# Altium footprint library CAN - Circle pin arrangement.PcbLib: 25 footprints (part 1 of 2)
Each footprint in its own frame and in the unit in brackets; x right, y up, seen from the top. Pads: shape width x height; smd on the part's side, far side on the other; paste and mask are expansions set on the pad; w line width, h text height; cw(c..) or ccw(c..) is an arc to the next point about the centre after c.
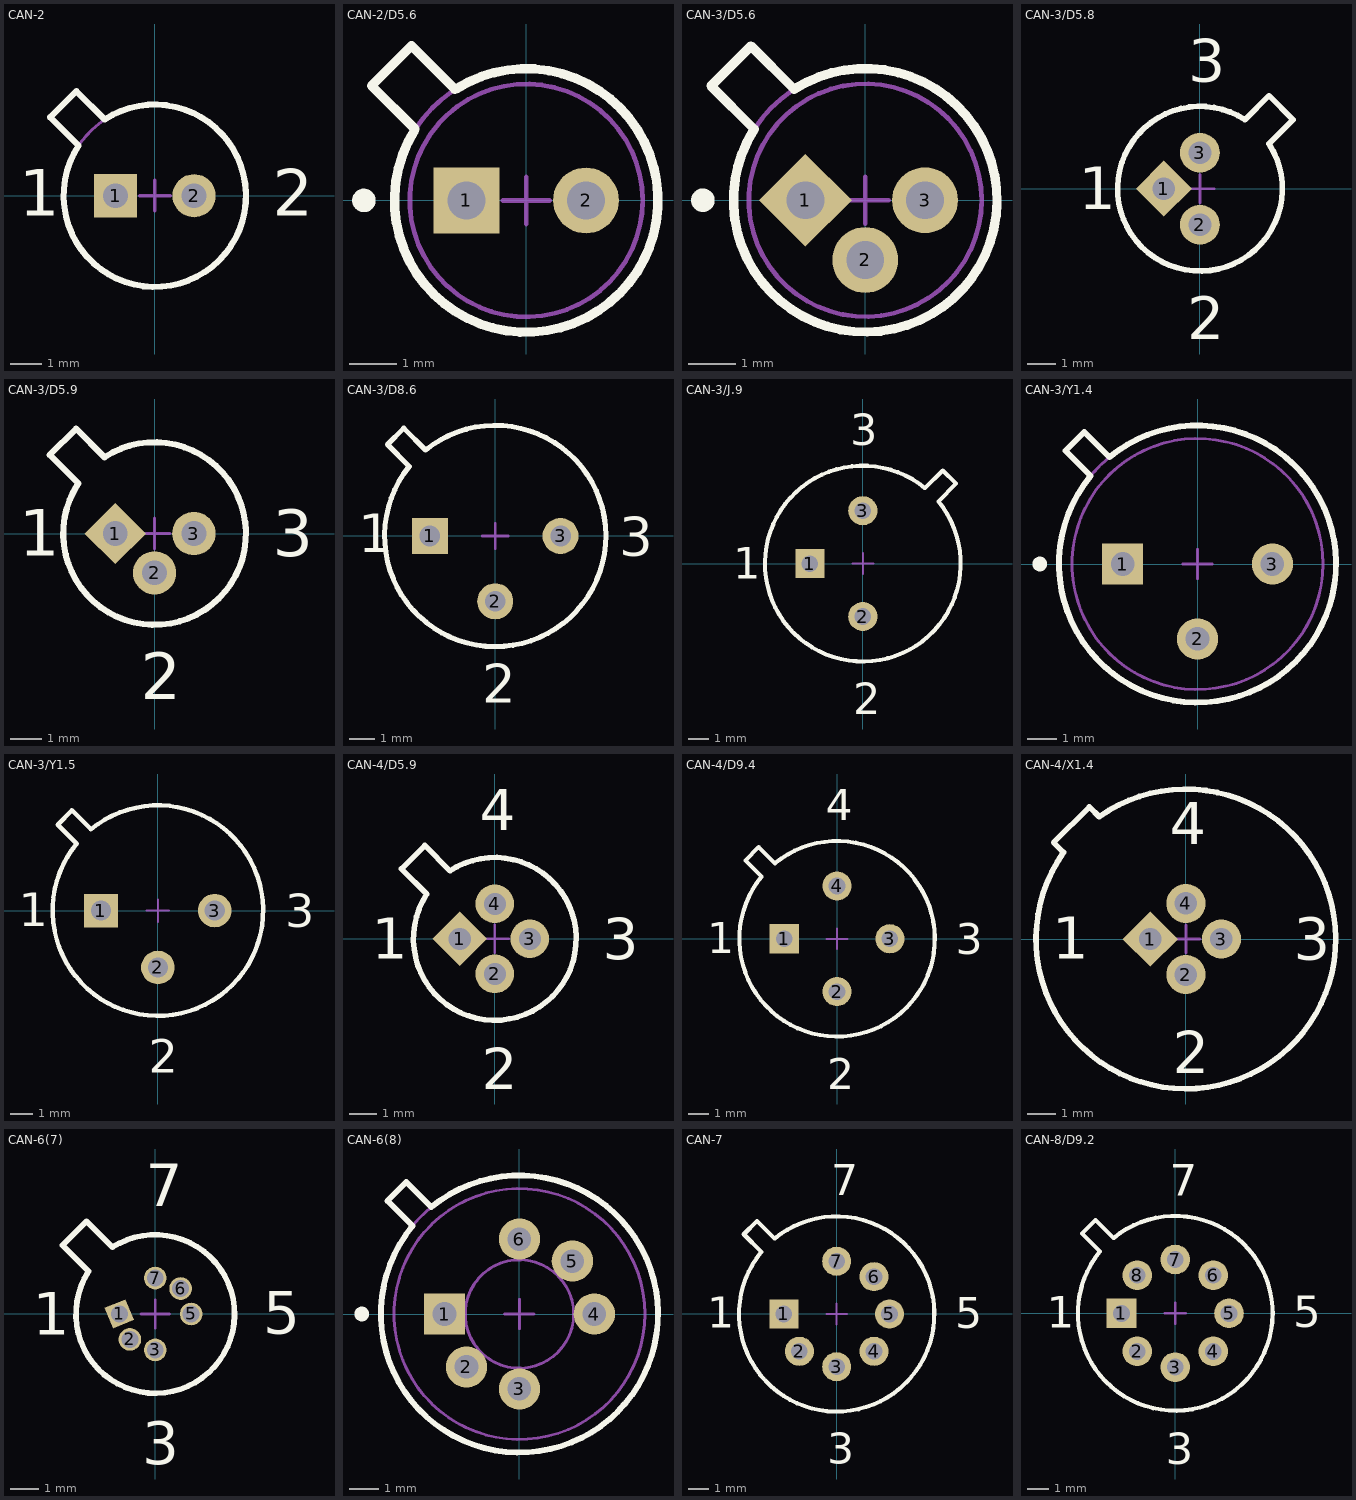
[diagram p0: the footprints below, top view; thin cyan lines are the x and y axes]

## CAN-2 [mm] "Can; 2 Leads; Pin Circle Dia. 2.54 mm; Lead Dia. 0.48 mm (max)"
height 3.81
pads (2):
  rect 1.4x1.4 hole 0.8: 1(-1.27,0)
  round 1.4 hole 0.8: 2(1.27,0)
Top Overlay:
  lines w0.2: -3.386,2.537 -2.467,1.618 ccw(c0,0) -1.618,2.467 -2.537,3.386 -3.386,2.537
  text "1" at -4.393,-0.645 h1.5
  text "2" at 3.813,-0.645 h1.5
Mechanical 13:
  circle w0.1: c0,0 r2.95
Mechanical 15:
  lines w0.1: -0.5,0 0.5,0 ; 0,-0.5 0,0.5

## CAN-2/D5.6 [mm] "Can; 2 Leads; Pin Circle Dia. 2.54 mm; Lead Dia. 0.48 mm (max)"
height 2.67
pads (2):
  rect 1.4x1.4 hole 0.8: 1(-1.27,0)
  round 1.4 hole 0.8: 2(1.27,0)
Top Overlay:
  circle w0.25: c-3.45,0 r0.125
  lines w0.2: -2.375,1.484 ccw(c0,0) -1.484,2.375 ; -2.367,1.518 -3.286,2.437 -2.437,3.286 -1.518,2.367
Mechanical 13:
  circle w0.1: c0,0 r2.475
  circle w0.1: c0,0 r2.8
Mechanical 15:
  lines w0.1: -0.5,0 0.5,0 ; 0,-0.5 0,0.5
3D body: height 2.67, standoff 0.76, extent -2.486,-2.486 2.486,2.486
3D body: height 0.76, standoff 0, extent -2.808,-2.808 2.808,2.808

## CAN-3/D5.6 [mm] "Can; 3 Leads; Pin Circle Dia. 2.54 mm; Lead Dia. 0.48 mm (max)"
height 2.67
pads (3):
  rect 1.4x1.4 hole 0.8 rot 45: 1(-1.27,0)
  round 1.4 hole 0.8: 2(0,-1.27) 3(1.27,0)
Top Overlay:
  circle w0.25: c-3.45,0 r0.125
  lines w0.2: -3.277,2.429 -2.358,1.51 ccw(c0,0) -1.51,2.358 -2.429,3.277 -3.277,2.429
Mechanical 13:
  circle w0.1: c0,0 r2.8
  circle w0.1: c0,0 r2.475
Mechanical 15:
  lines w0.1: -0.5,0 0.5,0 ; 0,-0.5 0,0.5
3D body: height 0.76, standoff 0, extent -2.808,-2.808 2.808,2.808
3D body: height 2.67, standoff 0.76, extent -2.486,-2.486 2.486,2.486

## CAN-3/D5.8 [mm] "Can; 3 Leads; Pin Circle Dia. 2.54 mm; Lead Dia. 0.49 mm (max)"
height 5.3
pads (3):
  rect 1.4x1.4 hole 0.8 rot 45: 1(-1.27,0)
  round 1.4 hole 0.8: 2(0,-1.27) 3(0,1.27)
Top Overlay:
  lines w0.2: 1.582,2.431 ccw(c0,0) 2.431,1.582 3.279,2.431 2.431,3.279 1.582,2.431
  text "3" at -0.419,3.772 h1.5
  text "2" at -0.443,-5.291 h1.5
  text "1" at -4.262,-0.718 h1.5
Mechanical 15:
  lines w0.1: -0.5,0 0.5,0 ; 0,-0.5 0,0.5

## CAN-3/D5.9 [mm] "Can; 3 Leads; Pin Circle Dia. 2.54 mm; Lead Dia. 0.48 mm (max)"
height 3.81
pads (3):
  rect 1.4x1.4 hole 0.8 rot 45: 1(-1.27,0)
  round 1.4 hole 0.8: 2(0,-1.27) 3(1.27,0)
Top Overlay:
  lines w0.2: -3.386,2.537 -2.467,1.618 ccw(c0,0) -1.618,2.467 -2.537,3.386 -3.386,2.537
  text "3" at 3.812,-0.742 h1.5
  text "2" at -0.443,-5.355 h1.5
  text "1" at -4.38,-0.719 h1.5
Mechanical 15:
  lines w0.1: -0.5,0 0.5,0 ; 0,-0.5 0,0.5

## CAN-3/D8.6 [mm] "Can; 3 Leads; Pin Circle Dia. 5.08 mm; Lead Dia. 0.48 mm (max)"
height 4.7
pads (3):
  rect 1.4x1.4 hole 0.8: 1(-2.54,0)
  round 1.4 hole 0.8: 2(0,-2.54) 3(2.54,0)
Top Overlay:
  lines w0.2: -4.191,3.554 -3.342,2.706 ccw(c0,0) -2.706,3.342 -3.554,4.19 -4.19,3.554
  text "3" at 4.826,-0.762 h1.5
  text "2" at -0.508,-6.477 h1.5
  text "1" at -5.334,-0.635 h1.5
Mechanical 15:
  lines w0.1: -0.5,0 0.5,0 ; 0,-0.5 0,0.5

## CAN-3/J.9 [mm] "Can; 3 Leads; Pin Circle Dia. 5.08 mm; Lead Dia. 0.49 mm (max)"
height 6.6
pads (3):
  rect 1.4x1.4 hole 0.8: 1(-2.54,0)
  round 1.4 hole 0.8: 2(0,-2.54) 3(0,2.54)
Top Overlay:
  lines w0.2: 2.99,3.626 ccw(c0,0) 3.626,2.99 4.475,3.838 3.838,4.475 2.99,3.626
  text "3" at -0.595,5.683 h1.5
  text "2" at -0.469,-7.22 h1.5
  text "1" at -6.219,-0.733 h1.5
Mechanical 15:
  lines w0.1: -0.5,0 0.5,0 ; 0,-0.5 0,0.5

## CAN-3/Y1.4 [mm] "Can; 3 Leads; Pin Circle Dia. 5.08 mm; Lead Dia. 0.48 mm (max)"
height 4.7
pads (3):
  rect 1.4x1.4 hole 0.8: 1(-2.54,0)
  round 1.4 hole 0.8: 2(0,-2.54) 3(2.54,0)
Top Overlay:
  circle w0.25: c-5.35,0 r0.125
  lines w0.2: -3.626,2.99 -4.475,3.838 -3.838,4.475 -2.99,3.626 ; -3.622,2.987 ccw(c0,0) -2.987,3.622
Mechanical 13:
  circle w0.1: c0,0 r4.695
  circle w0.1: c0,0 r4.255
Mechanical 15:
  lines w0.1: -0.5,0 0.5,0 ; 0,-0.5 0,0.5
3D body: height 1.27, standoff 0, extent -4.705,-4.705 4.705,4.705
3D body: height 4.7, standoff 1.27, extent -4.264,-4.264 4.264,4.264

## CAN-3/Y1.5 [mm] "Can; 3 Leads; Pin Circle Dia. 5.08 mm; Lead Dia. 0.53 mm (max)"
height 4.57
pads (3):
  rect 1.5x1.5 hole 0.9: 1(-2.54,0)
  round 1.5 hole 0.9: 2(0,-2.54) 3(2.54,0)
Top Overlay:
  lines w0.2: -4.475,3.838 -3.626,2.99 ccw(c0,0) -2.99,3.626 -3.838,4.475 -4.475,3.838
  text "1" at -6.201,-0.697 h1.5
  text "2" at -0.415,-7.238 h1.5
  text "3" at 5.694,-0.751 h1.5
Mechanical 15:
  lines w0.1: -0.5,0 0.5,0 ; 0,-0.5 0,0.5

## CAN-4/D5.9 [mm] "Can; 4 Leads; Pin Circle Dia. 2.54 mm; Lead Dia. 0.48 mm (max)"
height 5.34
pads (4):
  rect 1.4x1.4 hole 0.8 rot 45: 1(-1.27,0)
  round 1.4 hole 0.8: 2(0,-1.27) 3(1.27,0) 4(0,1.27)
Top Overlay:
  lines w0.2: -3.386,2.537 -2.467,1.618 ccw(c0,0) -1.618,2.467 -2.537,3.386 -3.386,2.537
  text "1" at -4.454,-0.719 h1.5
  text "2" at -0.468,-5.441 h1.5
  text "3" at 3.91,-0.743 h1.5
  text "4" at -0.554,3.93 h1.5
Mechanical 15:
  lines w0.1: -0.5,0 0.5,0 ; 0,-0.5 0,0.5

## CAN-4/D9.4 [mm] "Can; 4 Leads; Pin Circle Dia. 5.08 mm; Lead Dia. 0.48 mm (max)"
height 4.7
pads (4):
  rect 1.4x1.4 hole 0.8: 1(-2.54,0)
  round 1.4 hole 0.8: 2(0,-2.54) 3(2.54,0) 4(0,2.54)
Top Overlay:
  lines w0.2: -4.404,3.768 -3.626,2.99 ccw(c0,0) -2.99,3.626 -3.768,4.404 -4.404,3.768
  text "4" at -0.541,5.701 h1.5
  text "3" at 5.694,-0.751 h1.5
  text "2" at -0.469,-7.221 h1.5
  text "1" at -6.238,-0.697 h1.5
Mechanical 15:
  lines w0.1: -0.5,0 0.5,0 ; 0,-0.5 0,0.5

## CAN-4/X1.4 [mm] "Can; 4 Leads; Pin Circle Dia. 2.54 mm; Lead Dia. 0.48 mm (max)"
height 5.95
pads (4):
  rect 1.4x1.4 hole 0.8 rot 45: 1(-1.27,0)
  round 1.4 hole 0.8: 2(0,-1.27) 3(1.27,0) 4(0,1.27)
Top Overlay:
  lines w0.2: -4.719,3.446 -3.446,4.719 -3.093,4.366 cw(c0,0) -4.366,3.093 -4.719,3.446
  text "4" at -0.57,3.375 h1.5
  text "3" at 3.86,-0.743 h1.5
  text "2" at -0.47,-4.8 h1.5
  text "1" at -4.77,-0.7 h1.5
Mechanical 15:
  lines w0.1: -0.5,0 0.5,0 ; 0,-0.5 0,0.5

## CAN-6(7) [mm] "Can; 7 Leads (1 Absent); Pin Circle Dia. 2.54 mm; Lead Dia. 0.48 mm (max)"
height 5.34
pads (6):
  rect 0.8x0.8 hole 0.6 rot 22.5: 1(-1.27,0)
  round 0.8 hole 0.6: 2(-0.898,-0.898) 3(0,-1.27) 5(1.27,0) 6(0.898,0.898) 7(0,1.27)
Top Overlay:
  lines w0.2: -3.277,2.429 -2.358,1.51 ccw(c0,0) -1.51,2.358 -2.429,3.277 -3.277,2.429
  text "7" at -0.336,3.798 h1.5
  text "5" at 3.806,-0.692 h1.5
  text "3" at -0.465,-5.299 h1.5
  text "1" at -4.335,-0.727 h1.5
Mechanical 15:
  lines w0.1: -0.5,0 0.5,0 ; 0,-0.5 0,0.5

## CAN-6(8) [mm] "Can; 8 Leads (2 Absent); Pin Circle Dia. 5.08 mm; Lead Dia. 0.48 mm (max)"
height 5.56
pads (6):
  rect 1.4x1.4 hole 0.8: 1(-2.54,0)
  round 1.4 hole 0.8: 2(-1.796,-1.796) 3(0,-2.54) 4(2.54,0) 5(1.796,1.796) 6(0,2.54)
Top Overlay:
  circle w0.25: c-5.35,0 r0.125
  lines w0.2: -4.475,3.838 -3.838,4.475 -2.99,3.626 cw(c0,0) -3.626,2.99 -4.475,3.838
Mechanical 13:
  circle w0.1: c0,0 r1.84
  circle w0.1: c0,0 r4.7
  circle w0.1: c0,0 r4.255
Mechanical 15:
  lines w0.1: -0.5,0 0.5,0 ; 0,-0.5 0,0.5
3D body: height 1.91, standoff 0.38, extent -4.71,-4.71 4.71,4.71
3D body: height 5.56, standoff 1.91, extent -4.264,-4.264 4.264,4.264
3D body: height 0.38, standoff 0, extent -1.848,-1.848 1.848,1.848

## CAN-7 [mm] "Can; 7 Leads; Pin Circle Dia. 5.08 mm; Lead Dia. 0.48 mm (max)"
height 4.7
pads (7):
  rect 1.4x1.4 hole 0.8: 1(-2.54,0)
  round 1.4 hole 0.8: 2(-1.796,-1.796) 3(0,-2.54) 4(1.796,-1.796) 5(2.54,0) 6(1.796,1.796) 7(0,2.54)
Top Overlay:
  lines w0.2: -4.475,3.838 -3.838,4.475 -2.99,3.626 cw(c0,0) -3.626,2.99 -4.475,3.838
  text "1" at -6.22,-0.661 h1.5
  text "3" at -0.451,-7.22 h1.5
  text "5" at 5.713,-0.697 h1.5
  text "7" at -0.254,5.719 h1.5
Mechanical 15:
  lines w0.1: -0.5,0 0.5,0 ; 0,-0.5 0,0.5

## CAN-8/D9.2 [mm] "Can; 8 Leads; Pin Circle Dia. 5.08 mm; Lead Dia. 0.48 mm (max)"
height 6.6
pads (8):
  rect 1.4x1.4 hole 0.8: 1(-2.54,0)
  round 1.4 hole 0.8: 2(-1.796,-1.796) 3(0,-2.54) 4(1.796,-1.796) 5(2.54,0) 6(1.796,1.796) 7(0,2.54) 8(-1.796,1.796)
Top Overlay:
  lines w0.2: -4.404,3.767 -3.767,4.404 -2.919,3.555 cw(c0,0) -3.555,2.919 -4.404,3.767
  text "7" at -0.261,5.552 h1.5
  text "5" at 5.582,-0.66 h1.5
  text "3" at -0.455,-7.118 h1.5
  text "1" at -6.067,-0.678 h1.5
Mechanical 15:
  lines w0.1: -0.5,0 0.5,0 ; 0,-0.5 0,0.5